# Altium integrated library Analog Devices Data Converters Digital-to-Analog Converters.IntLib: 2231 symbols (part 65 of 181)
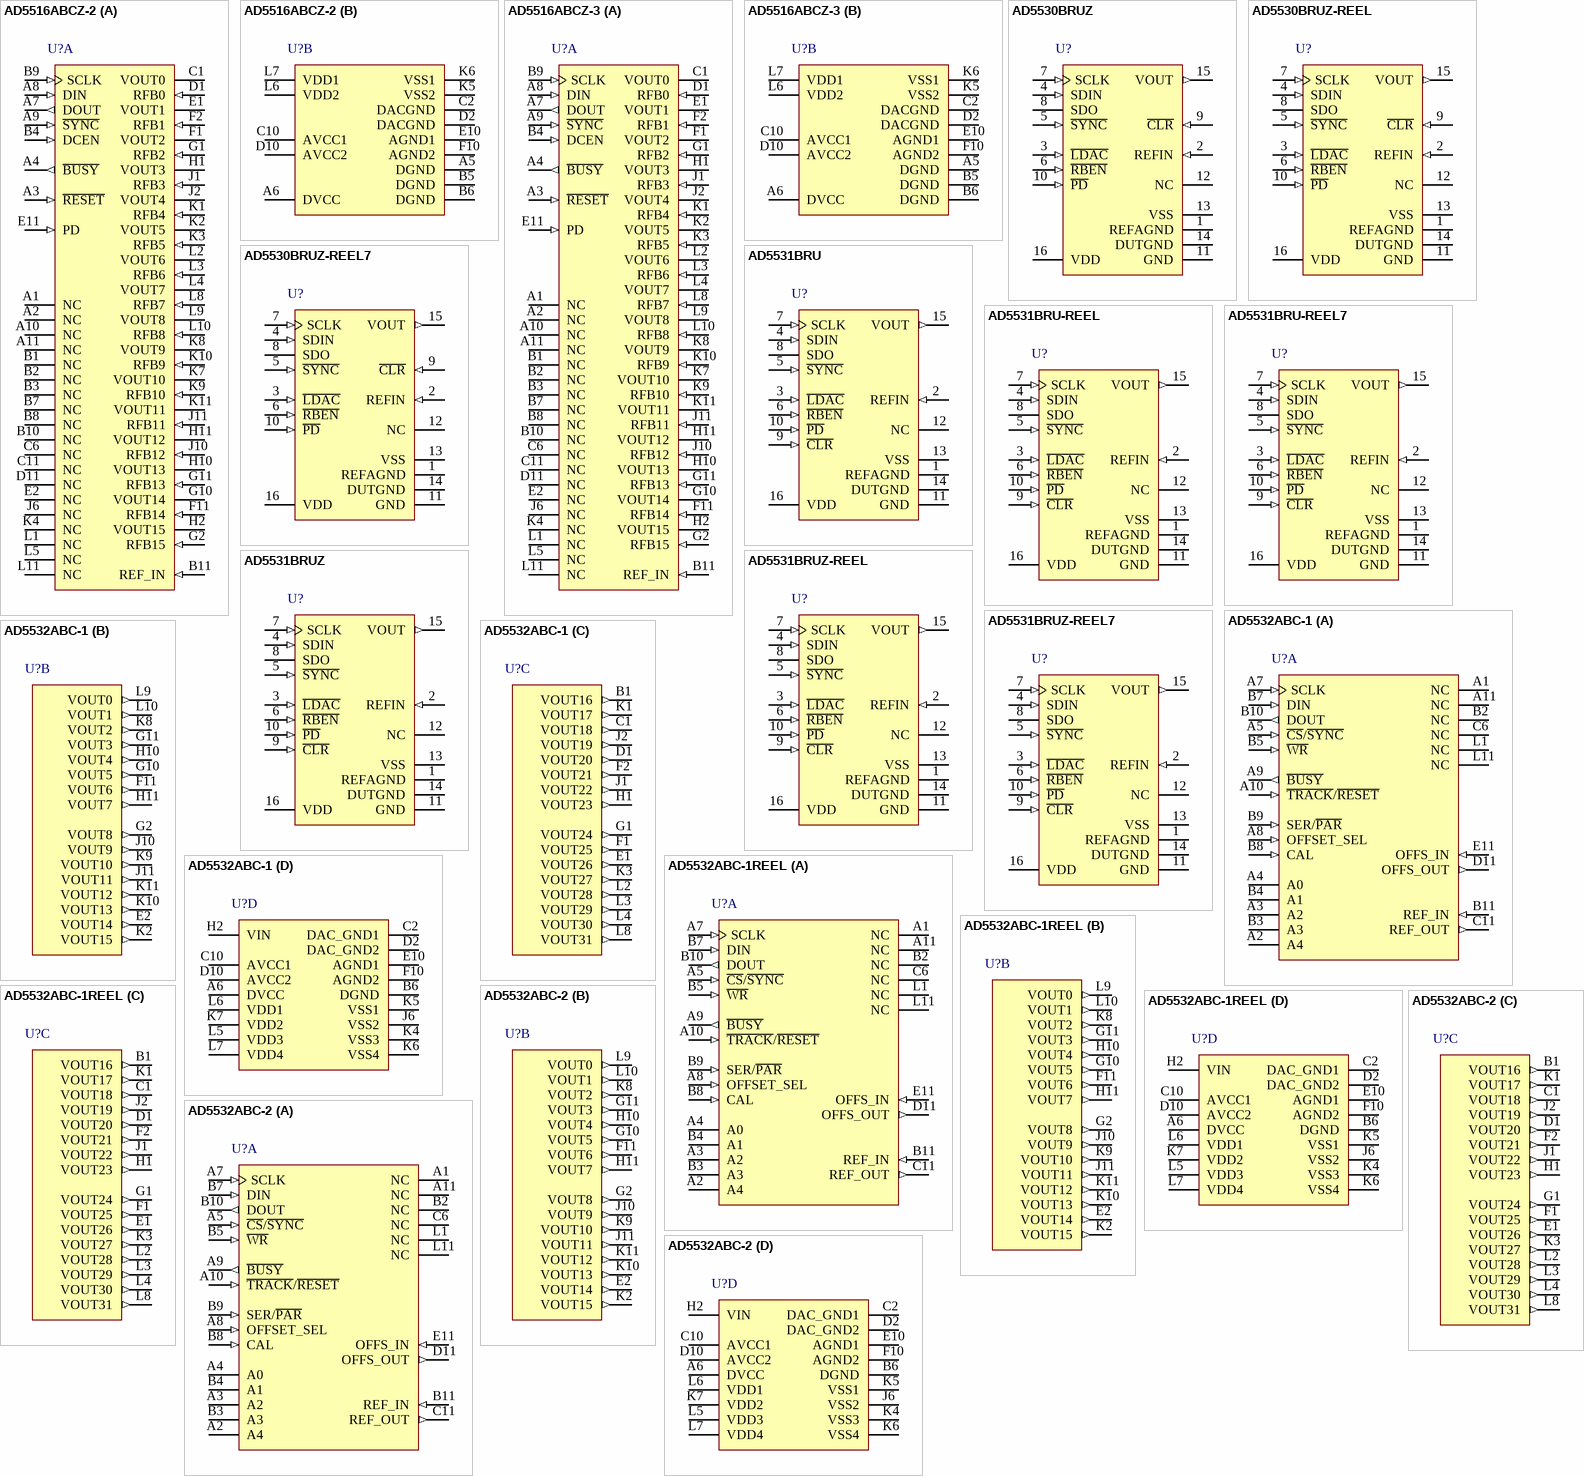
[diagram p178: symbols AD5516ABCZ-2 to AD5532ABC-2]

## AD5516ABCZ-3
designator U?
16 Channel 14-Bit Digital-to-Analog Converter, -40 to +85 degC, BC-74, Pb-Free, Tray; Generic Part Number: AD5516; Manufacturer: Analog Devices; PartNumber: AD5516ABCZ-3; # DAC Outputs: 16; Max V+: 13.2V; Op Pwr Diss: 243mW; Resolution (Bits): 14; Settling Time: 32µs; Single Supply: No; DatasheetVersion: Rev.B; PackageVersion: 061306-A; PackageReference: BC-74; PackageDescription: 74-Ball Chip Scale Package Ball Grid Array [CSP_BGA]; Supplier 1: Digi-Key; Supplier Part Number 1: AD5516ABCZ-3-ND; Supplier 2: Mouser; Supplier Part Number 2: 584-AD5516ABCZ-3; Packing: Tray; RoHS: Y; Mounting Technology: Surface Mount; Code_JEDEC: MO-192-ABD-1; ComponentLink1Description: Manufacturer URL; ComponentLink1URL: http://www.analog.com/en/index.html; ComponentLink2Description: Datasheet; ComponentLink2URL: http://www.analog.com/static/imported-files/data_sheets/AD5516.pdf; ComponentLink3Description: Package Specification; ComponentLink3URL: http://www.analog.com/static/imported-files/packages/466795438540441203902150BC_74.pdf; ComponentLink4Description: Product URL; ComponentLink4URL: http://www.analog.com/en/digital-to-analog-converters/da-converters/ad5516/products/product.html
footprint BC-74 (BGA, 74-Leads, Body 12x12mm, Pitch 1mm)
part A pins: A1 NC "Not Internally Connected", A2 NC "Not Internally Connected", A3 ~{RESET} (in) "Active Low Control Input. This resets all DAC registers to power-on value.", A4 ~{BUSY} (out) "Active Low Output. This signal tells the user that the analog calibration loop is active. It goes low during conversion.The duration of the pulse on B\U\S\Y\ determines the maximum DAC update rate, fUPDATE. Further writes to (See Datasheet)", A7 DOUT (out) "Serial Data Output. DOUT can be used for daisy-chaining a number of devices together or for reading back the data in the shift register for diagnostic purposes. Data is clocked out on DOUT on the rising edge of SCLK and is (See Datasheet)", A8 DIN (in) "Serial Data Input. Data must be valid on the falling edge of SCLK.", A9 ~{SYNC} (in) "Active Low Input. This is the frame synchronization signal for the serial interface. While S\Y\N\C\ is low, data is transferred in on the falling edge of SCLK.", A10 NC "Not Internally Connected", A11 NC "Not Internally Connected", B1 NC "Not Internally Connected", B2 NC "Not Internally Connected", B3 NC "Not Internally Connected", B4 DCEN (in) "Active High Control Input. This pin is tied high to enable Daisy-Chain Mode.", B7 NC "Not Internally Connected", B8 NC "Not Internally Connected", B9 SCLK (in) "Serial Clock Input. Data is clocked into the shift register on the falling edge of SCLK. This operates at clock speeds up to 20 MHz.", B10 NC "Not Internally Connected", B11 REF_IN (in) "Reference Input Voltage for All 16 DACs. The recommended value of REF_IN is 3 V.", C1 VOUT0 (hiz) "Analog Output Voltages from the 16 DAC Channels", C6 NC "Not Internally Connected", C11 NC "Not Internally Connected", D1 RFB0 (in) "Feedback Resistors. For nominal output voltage range, connect each RFB to its corresponding VOUT. Access to the feedback resistors enables the user to increase the DAC current drive or generate programmable current sources. (See Datasheet)", D11 NC "Not Internally Connected", E1 VOUT1 (hiz) "Analog Output Voltages from the 16 DAC Channels", E2 NC "Not Internally Connected", E11 PD (in) "Active High Control Input. All DACs go into power-down mode when this pin is high. The DAC outputs go into a high impedance state.", F1 VOUT2 (hiz) "Analog Output Voltages from the 16 DAC Channels", F2 RFB1 (in) "Feedback Resistors. For nominal output voltage range, connect each RFB to its corresponding VOUT. Access to the feedback resistors enables the user to increase the DAC current drive or generate programmable current sources. (See Datasheet)", F11 RFB14 (in) "Feedback Resistors. For nominal output voltage range, connect each RFB to its corresponding VOUT. Access to the feedback resistors enables the user to increase the DAC current drive or generate programmable current sources. (See Datasheet)", G1 RFB2 (in) "Feedback Resistors. For nominal output voltage range, connect each RFB to its corresponding VOUT. Access to the feedback resistors enables the user to increase the DAC current drive or generate programmable current sources. (See Datasheet)", G2 RFB15 (in) "Feedback Resistors. For nominal output voltage range, connect each RFB to its corresponding VOUT. Access to the feedback resistors enables the user to increase the DAC current drive or generate programmable current sources. (See Datasheet)", G10 VOUT14 (hiz) "Analog Output Voltages from the 16 DAC Channels", G11 RFB13 (in) "Feedback Resistors. For nominal output voltage range, connect each RFB to its corresponding VOUT. Access to the feedback resistors enables the user to increase the DAC current drive or generate programmable current sources. (See Datasheet)", H1 VOUT3 (hiz) "Analog Output Voltages from the 16 DAC Channels", H2 VOUT15 (hiz) "Analog Output Voltages from the 16 DAC Channels", H10 VOUT13 (hiz) "Analog Output Voltages from the 16 DAC Channels", H11 VOUT12 (hiz) "Analog Output Voltages from the 16 DAC Channels", J1 RFB3 (in) "Feedback Resistors. For nominal output voltage range, connect each RFB to its corresponding VOUT. Access to the feedback resistors enables the user to increase the DAC current drive or generate programmable current sources. (See Datasheet)", J2 VOUT4 (hiz) "Analog Output Voltages from the 16 DAC Channels", J6 NC "Not Internally Connected", J10 RFB12 (in) "Feedback Resistors. For nominal output voltage range, connect each RFB to its corresponding VOUT. Access to the feedback resistors enables the user to increase the DAC current drive or generate programmable current sources. (See Datasheet)", J11 RFB11 (in) "Feedback Resistors. For nominal output voltage range, connect each RFB to its corresponding VOUT. Access to the feedback resistors enables the user to increase the DAC current drive or generate programmable current sources. (See Datasheet)", K1 RFB4 (in) "Feedback Resistors. For nominal output voltage range, connect each RFB to its corresponding VOUT. Access to the feedback resistors enables the user to increase the DAC current drive or generate programmable current sources. (See Datasheet)", K2 VOUT5 (hiz) "Analog Output Voltages from the 16 DAC Channels", K3 RFB5 (in) "Feedback Resistors. For nominal output voltage range, connect each RFB to its corresponding VOUT. Access to the feedback resistors enables the user to increase the DAC current drive or generate programmable current sources. (See Datasheet)", K4 NC "Not Internally Connected", K7 VOUT10 (hiz) "Analog Output Voltages from the 16 DAC Channels", K8 VOUT9 (hiz) "Analog Output Voltages from the 16 DAC Channels", K9 RFB10 (in) "Feedback Resistors. For nominal output voltage range, connect each RFB to its corresponding VOUT. Access to the feedback resistors enables the user to increase the DAC current drive or generate programmable current sources. (See Datasheet)", K10 RFB9 (in) "Feedback Resistors. For nominal output voltage range, connect each RFB to its corresponding VOUT. Access to the feedback resistors enables the user to increase the DAC current drive or generate programmable current sources. (See Datasheet)", K11 VOUT11 (hiz) "Analog Output Voltages from the 16 DAC Channels", L1 NC "Not Internally Connected", L2 VOUT6 (hiz) "Analog Output Voltages from the 16 DAC Channels", L3 RFB6 (in) "Feedback Resistors. For nominal output voltage range, connect each RFB to its corresponding VOUT. Access to the feedback resistors enables the user to increase the DAC current drive or generate programmable current sources. (See Datasheet)", L4 VOUT7 (hiz) "Analog Output Voltages from the 16 DAC Channels", L5 NC "Not Internally Connected", L8 RFB7 (in) "Feedback Resistors. For nominal output voltage range, connect each RFB to its corresponding VOUT. Access to the feedback resistors enables the user to increase the DAC current drive or generate programmable current sources. (See Datasheet)", L9 VOUT8 (hiz) "Analog Output Voltages from the 16 DAC Channels", L10 RFB8 (in) "Feedback Resistors. For nominal output voltage range, connect each RFB to its corresponding VOUT. Access to the feedback resistors enables the user to increase the DAC current drive or generate programmable current sources. (See Datasheet)", L11 NC "Not Internally Connected"
part B pins: A5 DGND (power) "Digital GND Pins", A6 DVCC (power) "Digital Supply Pin. Voltage range from 2.7 V to 5.25 V.", B5 DGND (power) "Digital GND Pins", B6 DGND (power) "Digital GND Pins", C2 DACGND (power) "Reference GND Supply for All 16 DACs", C10 AVCC1 (power) "Analog Supply Pins. Voltage range from 4.75 V to 5.25 V.", D2 DACGND (power) "Reference GND Supply for All 16 DACs", D10 AVCC2 (power) "Analog Supply Pins. Voltage range from 4.75 V to 5.25 V.", E10 AGND1 (power) "Analog GND Pins", F10 AGND2 (power) "Analog GND Pins", K5 VSS2 (power) "VSS Supply Pins. Voltage range from -4.75 V to -15.75 V.", K6 VSS1 (power) "VSS Supply Pins. Voltage range from -4.75 V to -15.75 V.", L6 VDD2 (power) "VDD Supply Pins. Voltage range from 4.75 V to 15.75 V.", L7 VDD1 (power) "VDD Supply Pins. Voltage range from 4.75 V to 15.75 V."

## AD5530BRUZ
designator U?
Single 12-Bit Voltage Output Digital-to-Analog Converter with Serial Interface, -40 to +85 degC, RU-16, Pb-Free, Tube; Generic Part Number: AD5530; Manufacturer: Analog Devices; PartNumber: AD5530BRUZ; # DAC Outputs: 1; Max V+: 16.5V; Op Pwr Diss: 60mW; Resolution (Bits): 12; Settling Time: 20µs; Single Supply: No; DatasheetVersion: Rev.B; PackageVersion: Nov-2002; PackageReference: RU-16; PackageDescription: 16-Lead Thin Shrink Small Outline Package [TSSOP]; Supplier 1: Digi-Key; Supplier Part Number 1: AD5530BRUZ-ND; Supplier 2: Farnell; Supplier Part Number 2: 1079394; Supplier 3: Newark; Supplier Part Number 3: 59K4197; Supplier 4: Mouser; Supplier Part Number 4: 584-AD5530BRUZ; Packing: Tube; RoHS: Y; Mounting Technology: Surface Mount; Code_JEDEC: MO-153-AB; ComponentLink1Description: Manufacturer URL; ComponentLink1URL: http://www.analog.com/en/index.html; ComponentLink2Description: Datasheet; ComponentLink2URL: http://www.analog.com/static/imported-files/data_sheets/AD5530_5531.pdf; ComponentLink3Description: Package Specification; ComponentLink3URL: http://www.analog.com/static/imported-files/packages/36244347913743854010197452789RU16.pdf; ComponentLink4Description: Product URL; ComponentLink4URL: http://www.analog.com/en/digital-to-analog-converters/da-converters/ad5530/products/product.html
footprint RU-16_N (TSOP, 16-Leads, Body 5x4.4mm, Pitch 0.65mm, IPC Medium Density)
footprint RU-16_L (TSOP, 16-Leads, Body 5x4.4mm, Pitch 0.65mm, IPC High Density)
footprint RU-16_M (TSOP, 16-Leads, Body 5x4.4mm, Pitch 0.65mm, IPC Low Density)
pins: 1 REFAGND (power) "For bipolar +/-10 V output range, this pin should be tied to 0 V.", 2 REFIN (in) "This is the voltage reference input for the DAC. Connect to external 5 V reference for specified bipolar +/-10 V output.", 3 ~{LDAC} (in) "Load DAC Logic Input (Active Low). When taken low, the contents of the shift register are transferred to the DAC register. L\D\A\C\ can be tied permanently low, enabling the outputs to be updated on the rising edge of (See Datasheet)", 4 SDIN (in) "Serial Data Input. This device accepts 16-bit words. Data is clocked into the input register on the falling edge of SCLK.", 5 ~{SYNC} (in) "Active Low Control Input. Data is clocked into the shift register on the falling edges of SCLK.", 6 ~{RBEN} (in) "Active Low Readback Enable Function. This function allows the contents of the DAC register to be read. Data from the DAC register is shifted out on the SDO pin on each rising edge of SCLK.", 7 SCLK (in) "Clock Input. Data is clocked into the input register on the falling edge of SCLK.", 8 SDO (hiz) "Serial Data Out. This pin is used to clock out the serial data previously written to the input shift register or can be used in conjunction with R\B\E\N\ to read back the data from the DAC register. This is an open drain (See Datasheet)", 9 ~{CLR} (in) "Level Sensitive, Active Low Input. A falling edge of C\L\R\ resets VOUT to DUTGND. The contents of the registers are untouched.", 10 ~{PD} (in) "This allows the DAC to be put into a power-down state.", 11 GND (power) "Ground Reference.", 12 NC "Do not connect anything to this pin.", 13 VSS (power) "Negative Analog Supply Voltage. -12 V +/- 10% or -15 V +/- 10%, for specified performance.", 14 DUTGND (power) "VOUT is referenced to the voltage applied to this pin.", 15 VOUT (out) "DAC Output.", 16 VDD (power) "Positive Analog Supply Voltage. 12 V +/- 10% or 15 V +/- 10%, for specified performance."

## AD5530BRUZ-REEL
designator U?
Single 12-Bit Voltage Output Digital-to-Analog Converter with Serial Interface, -40 to +85 degC, RU-16, Pb-Free, Reel; Generic Part Number: AD5530; Manufacturer: Analog Devices; PartNumber: AD5530BRUZ-REEL; # DAC Outputs: 1; Max V+: 16.5V; Op Pwr Diss: 60mW; Resolution (Bits): 12; Settling Time: 20µs; Single Supply: No; DatasheetVersion: Rev.B; PackageVersion: Nov-2002; PackageReference: RU-16; PackageDescription: 16-Lead Thin Shrink Small Outline Package [TSSOP]; Supplier 1: Digi-Key; Supplier Part Number 1: AD5530BRUZ-REEL-ND; Supplier 2: Mouser; Supplier Part Number 2: 584-AD5530BRUZ-R; Packing: Reel; RoHS: Y; Mounting Technology: Surface Mount; Code_JEDEC: MO-153-AB; ComponentLink1Description: Manufacturer URL; ComponentLink1URL: http://www.analog.com/en/index.html; ComponentLink2Description: Datasheet; ComponentLink2URL: http://www.analog.com/static/imported-files/data_sheets/AD5530_5531.pdf; ComponentLink3Description: Package Specification; ComponentLink3URL: http://www.analog.com/static/imported-files/packages/36244347913743854010197452789RU16.pdf; ComponentLink4Description: Product URL; ComponentLink4URL: http://www.analog.com/en/digital-to-analog-converters/da-converters/ad5530/products/product.html
footprint RU-16_N (TSOP, 16-Leads, Body 5x4.4mm, Pitch 0.65mm, IPC Medium Density)
footprint RU-16_L (TSOP, 16-Leads, Body 5x4.4mm, Pitch 0.65mm, IPC High Density)
footprint RU-16_M (TSOP, 16-Leads, Body 5x4.4mm, Pitch 0.65mm, IPC Low Density)
pins: 1 REFAGND (power) "For bipolar +/-10 V output range, this pin should be tied to 0 V.", 2 REFIN (in) "This is the voltage reference input for the DAC. Connect to external 5 V reference for specified bipolar +/-10 V output.", 3 ~{LDAC} (in) "Load DAC Logic Input (Active Low). When taken low, the contents of the shift register are transferred to the DAC register. L\D\A\C\ can be tied permanently low, enabling the outputs to be updated on the rising edge of (See Datasheet)", 4 SDIN (in) "Serial Data Input. This device accepts 16-bit words. Data is clocked into the input register on the falling edge of SCLK.", 5 ~{SYNC} (in) "Active Low Control Input. Data is clocked into the shift register on the falling edges of SCLK.", 6 ~{RBEN} (in) "Active Low Readback Enable Function. This function allows the contents of the DAC register to be read. Data from the DAC register is shifted out on the SDO pin on each rising edge of SCLK.", 7 SCLK (in) "Clock Input. Data is clocked into the input register on the falling edge of SCLK.", 8 SDO (hiz) "Serial Data Out. This pin is used to clock out the serial data previously written to the input shift register or can be used in conjunction with R\B\E\N\ to read back the data from the DAC register. This is an open drain (See Datasheet)", 9 ~{CLR} (in) "Level Sensitive, Active Low Input. A falling edge of C\L\R\ resets VOUT to DUTGND. The contents of the registers are untouched.", 10 ~{PD} (in) "This allows the DAC to be put into a power-down state.", 11 GND (power) "Ground Reference.", 12 NC "Do not connect anything to this pin.", 13 VSS (power) "Negative Analog Supply Voltage. -12 V +/- 10% or -15 V +/- 10%, for specified performance.", 14 DUTGND (power) "VOUT is referenced to the voltage applied to this pin.", 15 VOUT (out) "DAC Output.", 16 VDD (power) "Positive Analog Supply Voltage. 12 V +/- 10% or 15 V +/- 10%, for specified performance."

## AD5530BRUZ-REEL7
designator U?
Single 12-Bit Voltage Output Digital-to-Analog Converter with Serial Interface, -40 to +85 degC, RU-16, Pb-Free, Reel; Generic Part Number: AD5530; Manufacturer: Analog Devices; PartNumber: AD5530BRUZ-REEL7; # DAC Outputs: 1; Max V+: 16.5V; Op Pwr Diss: 60mW; Resolution (Bits): 12; Settling Time: 20µs; Single Supply: No; DatasheetVersion: Rev.B; PackageVersion: Nov-2002; PackageReference: RU-16; PackageDescription: 16-Lead Thin Shrink Small Outline Package [TSSOP]; Supplier 1: Digi-Key; Supplier Part Number 1: AD5530BRUZ-REEL7-ND; Supplier 2: Mouser; Supplier Part Number 2: 584-AD5530BRUZ-R7; Packing: Reel; RoHS: Y; Mounting Technology: Surface Mount; Code_JEDEC: MO-153-AB; ComponentLink1Description: Manufacturer URL; ComponentLink1URL: http://www.analog.com/en/index.html; ComponentLink2Description: Datasheet; ComponentLink2URL: http://www.analog.com/static/imported-files/data_sheets/AD5530_5531.pdf; ComponentLink3Description: Package Specification; ComponentLink3URL: http://www.analog.com/static/imported-files/packages/36244347913743854010197452789RU16.pdf; ComponentLink4Description: Product URL; ComponentLink4URL: http://www.analog.com/en/digital-to-analog-converters/da-converters/ad5530/products/product.html
footprint RU-16_N (TSOP, 16-Leads, Body 5x4.4mm, Pitch 0.65mm, IPC Medium Density)
footprint RU-16_L (TSOP, 16-Leads, Body 5x4.4mm, Pitch 0.65mm, IPC High Density)
footprint RU-16_M (TSOP, 16-Leads, Body 5x4.4mm, Pitch 0.65mm, IPC Low Density)
pins: 1 REFAGND (power) "For bipolar +/-10 V output range, this pin should be tied to 0 V.", 2 REFIN (in) "This is the voltage reference input for the DAC. Connect to external 5 V reference for specified bipolar +/-10 V output.", 3 ~{LDAC} (in) "Load DAC Logic Input (Active Low). When taken low, the contents of the shift register are transferred to the DAC register. L\D\A\C\ can be tied permanently low, enabling the outputs to be updated on the rising edge of (See Datasheet)", 4 SDIN (in) "Serial Data Input. This device accepts 16-bit words. Data is clocked into the input register on the falling edge of SCLK.", 5 ~{SYNC} (in) "Active Low Control Input. Data is clocked into the shift register on the falling edges of SCLK.", 6 ~{RBEN} (in) "Active Low Readback Enable Function. This function allows the contents of the DAC register to be read. Data from the DAC register is shifted out on the SDO pin on each rising edge of SCLK.", 7 SCLK (in) "Clock Input. Data is clocked into the input register on the falling edge of SCLK.", 8 SDO (hiz) "Serial Data Out. This pin is used to clock out the serial data previously written to the input shift register or can be used in conjunction with R\B\E\N\ to read back the data from the DAC register. This is an open drain (See Datasheet)", 9 ~{CLR} (in) "Level Sensitive, Active Low Input. A falling edge of C\L\R\ resets VOUT to DUTGND. The contents of the registers are untouched.", 10 ~{PD} (in) "This allows the DAC to be put into a power-down state.", 11 GND (power) "Ground Reference.", 12 NC "Do not connect anything to this pin.", 13 VSS (power) "Negative Analog Supply Voltage. -12 V +/- 10% or -15 V +/- 10%, for specified performance.", 14 DUTGND (power) "VOUT is referenced to the voltage applied to this pin.", 15 VOUT (out) "DAC Output.", 16 VDD (power) "Positive Analog Supply Voltage. 12 V +/- 10% or 15 V +/- 10%, for specified performance."

## AD5531BRU
designator U?
Single 14-Bit Voltage Output Digital-to-Analog Converter with Serial Interface, -40 to +85 degC, RU-16, Tube; Generic Part Number: AD5531; Manufacturer: Analog Devices; PartNumber: AD5531BRU; # DAC Outputs: 1; Max V+: 16.5V; Op Pwr Diss: 60mW; Resolution (Bits): 14; Settling Time: 20µs; Single Supply: No; DatasheetVersion: Rev.B; PackageVersion: Nov-2002; PackageReference: RU-16; PackageDescription: 16-Lead Thin Shrink Small Outline Package [TSSOP]; Supplier 1: Digi-Key; Supplier Part Number 1: AD5531BRU-ND; Supplier 2: Mouser; Supplier Part Number 2: 584-AD5531BRU; Packing: Tube; RoHS: N; Mounting Technology: Surface Mount; Code_JEDEC: MO-153-AB; ComponentLink1Description: Manufacturer URL; ComponentLink1URL: http://www.analog.com/en/index.html; ComponentLink2Description: Datasheet; ComponentLink2URL: http://www.analog.com/static/imported-files/data_sheets/AD5530_5531.pdf; ComponentLink3Description: Package Specification; ComponentLink3URL: http://www.analog.com/static/imported-files/packages/36244347913743854010197452789RU16.pdf; ComponentLink4Description: Product URL; ComponentLink4URL: http://www.analog.com/en/digital-to-analog-converters/da-converters/ad5531/products/product.html
footprint RU-16_N (TSOP, 16-Leads, Body 5x4.4mm, Pitch 0.65mm, IPC Medium Density)
footprint RU-16_L (TSOP, 16-Leads, Body 5x4.4mm, Pitch 0.65mm, IPC High Density)
footprint RU-16_M (TSOP, 16-Leads, Body 5x4.4mm, Pitch 0.65mm, IPC Low Density)
pins: 1 REFAGND (power) "For bipolar +/-10 V output range, this pin should be tied to 0 V.", 2 REFIN (in) "This is the voltage reference input for the DAC. Connect to external 5 V reference for specified bipolar +/-10 V output.", 3 ~{LDAC} (in) "Load DAC Logic Input (Active Low). When taken low, the contents of the shift register are transferred to the DAC register. L\D\A\C\ can be tied permanently low, enabling the outputs to be updated on the rising edge of (See Datasheet)", 4 SDIN (in) "Serial Data Input. This device accepts 16-bit words. Data is clocked into the input register on the falling edge of SCLK.", 5 ~{SYNC} (in) "Active Low Control Input. Data is clocked into the shift register on the falling edges of SCLK.", 6 ~{RBEN} (in) "Active Low Readback Enable Function. This function allows the contents of the DAC register to be read. Data from the DAC register is shifted out on the SDO pin on each rising edge of SCLK.", 7 SCLK (in) "Clock Input. Data is clocked into the input register on the falling edge of SCLK.", 8 SDO (hiz) "Serial Data Out. This pin is used to clock out the serial data previously written to the input shift register or can be used in conjunction with R\B\E\N\ to read back the data from the DAC register. This is an open drain (See Datasheet)", 9 ~{CLR} (in) "Level Sensitive, Active Low Input. A falling edge of C\L\R\ resets VOUT to DUTGND. The contents of the registers are untouched.", 10 ~{PD} (in) "This allows the DAC to be put into a power-down state.", 11 GND (power) "Ground Reference.", 12 NC "Do not connect anything to this pin.", 13 VSS (power) "Negative Analog Supply Voltage. -12 V +/-10% or -15 V +/-10%, for specified performance.", 14 DUTGND (power) "VOUT is referenced to the voltage applied to this pin.", 15 VOUT (out) "DAC Output.", 16 VDD (power) "Positive Analog Supply Voltage. 12 V +/-10% or 15 V +/-10%, for specified performance."

## AD5531BRU-REEL
designator U?
Single 14-Bit Voltage Output Digital-to-Analog Converter with Serial Interface, -40 to +85 degC, RU-16, Reel; Generic Part Number: AD5531; Manufacturer: Analog Devices; PartNumber: AD5531BRU-REEL; # DAC Outputs: 1; Max V+: 16.5V; Op Pwr Diss: 60mW; Resolution (Bits): 14; Settling Time: 20µs; Single Supply: No; DatasheetVersion: Rev.B; PackageVersion: Nov-2002; PackageReference: RU-16; PackageDescription: 16-Lead Thin Shrink Small Outline Package [TSSOP]; Supplier 1: Mouser; Supplier Part Number 1: N/A; Packing: Reel; RoHS: N; Mounting Technology: Surface Mount; Code_JEDEC: MO-153-AB; ComponentLink1Description: Manufacturer URL; ComponentLink1URL: http://www.analog.com/en/index.html; ComponentLink2Description: Datasheet; ComponentLink2URL: http://www.analog.com/static/imported-files/data_sheets/AD5530_5531.pdf; ComponentLink3Description: Package Specification; ComponentLink3URL: http://www.analog.com/static/imported-files/packages/36244347913743854010197452789RU16.pdf; ComponentLink4Description: Product URL; ComponentLink4URL: http://www.analog.com/en/digital-to-analog-converters/da-converters/ad5531/products/product.html
footprint RU-16_N (TSOP, 16-Leads, Body 5x4.4mm, Pitch 0.65mm, IPC Medium Density)
footprint RU-16_L (TSOP, 16-Leads, Body 5x4.4mm, Pitch 0.65mm, IPC High Density)
footprint RU-16_M (TSOP, 16-Leads, Body 5x4.4mm, Pitch 0.65mm, IPC Low Density)
pins: 1 REFAGND (power) "For bipolar +/-10 V output range, this pin should be tied to 0 V.", 2 REFIN (in) "This is the voltage reference input for the DAC. Connect to external 5 V reference for specified bipolar +/-10 V output.", 3 ~{LDAC} (in) "Load DAC Logic Input (Active Low). When taken low, the contents of the shift register are transferred to the DAC register. L\D\A\C\ can be tied permanently low, enabling the outputs to be updated on the rising edge of (See Datasheet)", 4 SDIN (in) "Serial Data Input. This device accepts 16-bit words. Data is clocked into the input register on the falling edge of SCLK.", 5 ~{SYNC} (in) "Active Low Control Input. Data is clocked into the shift register on the falling edges of SCLK.", 6 ~{RBEN} (in) "Active Low Readback Enable Function. This function allows the contents of the DAC register to be read. Data from the DAC register is shifted out on the SDO pin on each rising edge of SCLK.", 7 SCLK (in) "Clock Input. Data is clocked into the input register on the falling edge of SCLK.", 8 SDO (hiz) "Serial Data Out. This pin is used to clock out the serial data previously written to the input shift register or can be used in conjunction with R\B\E\N\ to read back the data from the DAC register. This is an open drain (See Datasheet)", 9 ~{CLR} (in) "Level Sensitive, Active Low Input. A falling edge of C\L\R\ resets VOUT to DUTGND. The contents of the registers are untouched.", 10 ~{PD} (in) "This allows the DAC to be put into a power-down state.", 11 GND (power) "Ground Reference.", 12 NC "Do not connect anything to this pin.", 13 VSS (power) "Negative Analog Supply Voltage. -12 V +/-10% or -15 V +/-10%, for specified performance.", 14 DUTGND (power) "VOUT is referenced to the voltage applied to this pin.", 15 VOUT (out) "DAC Output.", 16 VDD (power) "Positive Analog Supply Voltage. 12 V +/-10% or 15 V +/-10%, for specified performance."

## AD5531BRU-REEL7
designator U?
Single 14-Bit Voltage Output Digital-to-Analog Converter with Serial Interface, -40 to +85 degC, RU-16, Reel; Generic Part Number: AD5531; Manufacturer: Analog Devices; PartNumber: AD5531BRU-REEL7; # DAC Outputs: 1; Max V+: 16.5V; Op Pwr Diss: 60mW; Resolution (Bits): 14; Settling Time: 20µs; Single Supply: No; DatasheetVersion: Rev.B; PackageVersion: Nov-2002; PackageReference: RU-16; PackageDescription: 16-Lead Thin Shrink Small Outline Package [TSSOP]; Supplier 1: Digi-Key; Supplier Part Number 1: AD5531BRU-REEL7-ND; Supplier 2: Mouser; Supplier Part Number 2: 584-AD5531BRU-R7; Packing: Reel; RoHS: N; Mounting Technology: Surface Mount; Code_JEDEC: MO-153-AB; ComponentLink1Description: Manufacturer URL; ComponentLink1URL: http://www.analog.com/en/index.html; ComponentLink2Description: Datasheet; ComponentLink2URL: http://www.analog.com/static/imported-files/data_sheets/AD5530_5531.pdf; ComponentLink3Description: Package Specification; ComponentLink3URL: http://www.analog.com/static/imported-files/packages/36244347913743854010197452789RU16.pdf; ComponentLink4Description: Product URL; ComponentLink4URL: http://www.analog.com/en/digital-to-analog-converters/da-converters/ad5531/products/product.html
footprint RU-16_N (TSOP, 16-Leads, Body 5x4.4mm, Pitch 0.65mm, IPC Medium Density)
footprint RU-16_L (TSOP, 16-Leads, Body 5x4.4mm, Pitch 0.65mm, IPC High Density)
footprint RU-16_M (TSOP, 16-Leads, Body 5x4.4mm, Pitch 0.65mm, IPC Low Density)
pins: 1 REFAGND (power) "For bipolar +/-10 V output range, this pin should be tied to 0 V.", 2 REFIN (in) "This is the voltage reference input for the DAC. Connect to external 5 V reference for specified bipolar +/-10 V output.", 3 ~{LDAC} (in) "Load DAC Logic Input (Active Low). When taken low, the contents of the shift register are transferred to the DAC register. L\D\A\C\ can be tied permanently low, enabling the outputs to be updated on the rising edge of (See Datasheet)", 4 SDIN (in) "Serial Data Input. This device accepts 16-bit words. Data is clocked into the input register on the falling edge of SCLK.", 5 ~{SYNC} (in) "Active Low Control Input. Data is clocked into the shift register on the falling edges of SCLK.", 6 ~{RBEN} (in) "Active Low Readback Enable Function. This function allows the contents of the DAC register to be read. Data from the DAC register is shifted out on the SDO pin on each rising edge of SCLK.", 7 SCLK (in) "Clock Input. Data is clocked into the input register on the falling edge of SCLK.", 8 SDO (hiz) "Serial Data Out. This pin is used to clock out the serial data previously written to the input shift register or can be used in conjunction with R\B\E\N\ to read back the data from the DAC register. This is an open drain (See Datasheet)", 9 ~{CLR} (in) "Level Sensitive, Active Low Input. A falling edge of C\L\R\ resets VOUT to DUTGND. The contents of the registers are untouched.", 10 ~{PD} (in) "This allows the DAC to be put into a power-down state.", 11 GND (power) "Ground Reference.", 12 NC "Do not connect anything to this pin.", 13 VSS (power) "Negative Analog Supply Voltage. -12 V +/-10% or -15 V +/-10%, for specified performance.", 14 DUTGND (power) "VOUT is referenced to the voltage applied to this pin.", 15 VOUT (out) "DAC Output.", 16 VDD (power) "Positive Analog Supply Voltage. 12 V +/-10% or 15 V +/-10%, for specified performance."

## AD5531BRUZ
designator U?
Single 14-Bit Voltage Output Digital-to-Analog Converter with Serial Interface, -40 to +85 degC, RU-16, Pb-Free, Tube; Generic Part Number: AD5531; Manufacturer: Analog Devices; PartNumber: AD5531BRUZ; # DAC Outputs: 1; Max V+: 16.5V; Op Pwr Diss: 60mW; Resolution (Bits): 14; Settling Time: 20µs; Single Supply: No; DatasheetVersion: Rev.B; PackageVersion: Nov-2002; PackageReference: RU-16; PackageDescription: 16-Lead Thin Shrink Small Outline Package [TSSOP]; Supplier 1: Digi-Key; Supplier Part Number 1: AD5531BRUZ-ND; Supplier 2: Farnell; Supplier Part Number 2: 1438908; Supplier 3: Newark; Supplier Part Number 3: 59K4200; Supplier 4: Mouser; Supplier Part Number 4: 584-AD5531BRUZ; Packing: Tube; RoHS: Y; Mounting Technology: Surface Mount; Code_JEDEC: MO-153-AB; ComponentLink1Description: Manufacturer URL; ComponentLink1URL: http://www.analog.com/en/index.html; ComponentLink2Description: Datasheet; ComponentLink2URL: http://www.analog.com/static/imported-files/data_sheets/AD5530_5531.pdf; ComponentLink3Description: Package Specification; ComponentLink3URL: http://www.analog.com/static/imported-files/packages/36244347913743854010197452789RU16.pdf; ComponentLink4Description: Product URL; ComponentLink4URL: http://www.analog.com/en/digital-to-analog-converters/da-converters/ad5531/products/product.html
footprint RU-16_N (TSOP, 16-Leads, Body 5x4.4mm, Pitch 0.65mm, IPC Medium Density)
footprint RU-16_L (TSOP, 16-Leads, Body 5x4.4mm, Pitch 0.65mm, IPC High Density)
footprint RU-16_M (TSOP, 16-Leads, Body 5x4.4mm, Pitch 0.65mm, IPC Low Density)
pins: 1 REFAGND (power) "For bipolar +/-10 V output range, this pin should be tied to 0 V.", 2 REFIN (in) "This is the voltage reference input for the DAC. Connect to external 5 V reference for specified bipolar +/-10 V output.", 3 ~{LDAC} (in) "Load DAC Logic Input (Active Low). When taken low, the contents of the shift register are transferred to the DAC register. L\D\A\C\ can be tied permanently low, enabling the outputs to be updated on the rising edge of (See Datasheet)", 4 SDIN (in) "Serial Data Input. This device accepts 16-bit words. Data is clocked into the input register on the falling edge of SCLK.", 5 ~{SYNC} (in) "Active Low Control Input. Data is clocked into the shift register on the falling edges of SCLK.", 6 ~{RBEN} (in) "Active Low Readback Enable Function. This function allows the contents of the DAC register to be read. Data from the DAC register is shifted out on the SDO pin on each rising edge of SCLK.", 7 SCLK (in) "Clock Input. Data is clocked into the input register on the falling edge of SCLK.", 8 SDO (hiz) "Serial Data Out. This pin is used to clock out the serial data previously written to the input shift register or can be used in conjunction with R\B\E\N\ to read back the data from the DAC register. This is an open drain (See Datasheet)", 9 ~{CLR} (in) "Level Sensitive, Active Low Input. A falling edge of C\L\R\ resets VOUT to DUTGND. The contents of the registers are untouched.", 10 ~{PD} (in) "This allows the DAC to be put into a power-down state.", 11 GND (power) "Ground Reference.", 12 NC "Do not connect anything to this pin.", 13 VSS (power) "Negative Analog Supply Voltage. -12 V +/-10% or -15 V +/-10%, for specified performance.", 14 DUTGND (power) "VOUT is referenced to the voltage applied to this pin.", 15 VOUT (out) "DAC Output.", 16 VDD (power) "Positive Analog Supply Voltage. 12 V +/-10% or 15 V +/-10%, for specified performance."

## AD5531BRUZ-REEL
designator U?
Single 14-Bit Voltage Output Digital-to-Analog Converter with Serial Interface, -40 to +85 degC, RU-16, Pb-Free, Reel; Generic Part Number: AD5531; Manufacturer: Analog Devices; PartNumber: AD5531BRUZ-REEL; # DAC Outputs: 1; Max V+: 16.5V; Op Pwr Diss: 60mW; Resolution (Bits): 14; Settling Time: 20µs; Single Supply: No; DatasheetVersion: Rev.B; PackageVersion: Nov-2002; PackageReference: RU-16; PackageDescription: 16-Lead Thin Shrink Small Outline Package [TSSOP]; Supplier 1: Digi-Key; Supplier Part Number 1: AD5531BRUZ-REEL-ND; Supplier 2: Mouser; Supplier Part Number 2: 584-AD5531BRUZ-R; Packing: Reel; RoHS: Y; Mounting Technology: Surface Mount; Code_JEDEC: MO-153-AB; ComponentLink1Description: Manufacturer URL; ComponentLink1URL: http://www.analog.com/en/index.html; ComponentLink2Description: Datasheet; ComponentLink2URL: http://www.analog.com/static/imported-files/data_sheets/AD5530_5531.pdf; ComponentLink3Description: Package Specification; ComponentLink3URL: http://www.analog.com/static/imported-files/packages/36244347913743854010197452789RU16.pdf; ComponentLink4Description: Product URL; ComponentLink4URL: http://www.analog.com/en/digital-to-analog-converters/da-converters/ad5531/products/product.html
footprint RU-16_N (TSOP, 16-Leads, Body 5x4.4mm, Pitch 0.65mm, IPC Medium Density)
footprint RU-16_L (TSOP, 16-Leads, Body 5x4.4mm, Pitch 0.65mm, IPC High Density)
footprint RU-16_M (TSOP, 16-Leads, Body 5x4.4mm, Pitch 0.65mm, IPC Low Density)
pins: 1 REFAGND (power) "For bipolar +/-10 V output range, this pin should be tied to 0 V.", 2 REFIN (in) "This is the voltage reference input for the DAC. Connect to external 5 V reference for specified bipolar +/-10 V output.", 3 ~{LDAC} (in) "Load DAC Logic Input (Active Low). When taken low, the contents of the shift register are transferred to the DAC register. L\D\A\C\ can be tied permanently low, enabling the outputs to be updated on the rising edge of (See Datasheet)", 4 SDIN (in) "Serial Data Input. This device accepts 16-bit words. Data is clocked into the input register on the falling edge of SCLK.", 5 ~{SYNC} (in) "Active Low Control Input. Data is clocked into the shift register on the falling edges of SCLK.", 6 ~{RBEN} (in) "Active Low Readback Enable Function. This function allows the contents of the DAC register to be read. Data from the DAC register is shifted out on the SDO pin on each rising edge of SCLK.", 7 SCLK (in) "Clock Input. Data is clocked into the input register on the falling edge of SCLK.", 8 SDO (hiz) "Serial Data Out. This pin is used to clock out the serial data previously written to the input shift register or can be used in conjunction with R\B\E\N\ to read back the data from the DAC register. This is an open drain (See Datasheet)", 9 ~{CLR} (in) "Level Sensitive, Active Low Input. A falling edge of C\L\R\ resets VOUT to DUTGND. The contents of the registers are untouched.", 10 ~{PD} (in) "This allows the DAC to be put into a power-down state.", 11 GND (power) "Ground Reference.", 12 NC "Do not connect anything to this pin.", 13 VSS (power) "Negative Analog Supply Voltage. -12 V +/-10% or -15 V +/-10%, for specified performance.", 14 DUTGND (power) "VOUT is referenced to the voltage applied to this pin.", 15 VOUT (out) "DAC Output.", 16 VDD (power) "Positive Analog Supply Voltage. 12 V +/-10% or 15 V +/-10%, for specified performance."

## AD5531BRUZ-REEL7
designator U?
Single 14-Bit Voltage Output Digital-to-Analog Converter with Serial Interface, -40 to +85 degC, RU-16, Pb-Free, Reel; Generic Part Number: AD5531; Manufacturer: Analog Devices; PartNumber: AD5531BRUZ-REEL7; # DAC Outputs: 1; Max V+: 16.5V; Op Pwr Diss: 60mW; Resolution (Bits): 14; Settling Time: 20µs; Single Supply: No; DatasheetVersion: Rev.B; PackageVersion: Nov-2002; PackageReference: RU-16; PackageDescription: 16-Lead Thin Shrink Small Outline Package [TSSOP]; Supplier 1: Digi-Key; Supplier Part Number 1: AD5531BRUZ-REEL7-ND; Supplier 2: Mouser; Supplier Part Number 2: 584-AD5531BRUZ-R7; Packing: Reel; RoHS: Y; Mounting Technology: Surface Mount; Code_JEDEC: MO-153-AB; ComponentLink1Description: Manufacturer URL; ComponentLink1URL: http://www.analog.com/en/index.html; ComponentLink2Description: Datasheet; ComponentLink2URL: http://www.analog.com/static/imported-files/data_sheets/AD5530_5531.pdf; ComponentLink3Description: Package Specification; ComponentLink3URL: http://www.analog.com/static/imported-files/packages/36244347913743854010197452789RU16.pdf; ComponentLink4Description: Product URL; ComponentLink4URL: http://www.analog.com/en/digital-to-analog-converters/da-converters/ad5531/products/product.html
footprint RU-16_N (TSOP, 16-Leads, Body 5x4.4mm, Pitch 0.65mm, IPC Medium Density)
footprint RU-16_L (TSOP, 16-Leads, Body 5x4.4mm, Pitch 0.65mm, IPC High Density)
footprint RU-16_M (TSOP, 16-Leads, Body 5x4.4mm, Pitch 0.65mm, IPC Low Density)
pins: 1 REFAGND (power) "For bipolar +/-10 V output range, this pin should be tied to 0 V.", 2 REFIN (in) "This is the voltage reference input for the DAC. Connect to external 5 V reference for specified bipolar +/-10 V output.", 3 ~{LDAC} (in) "Load DAC Logic Input (Active Low). When taken low, the contents of the shift register are transferred to the DAC register. L\D\A\C\ can be tied permanently low, enabling the outputs to be updated on the rising edge of (See Datasheet)", 4 SDIN (in) "Serial Data Input. This device accepts 16-bit words. Data is clocked into the input register on the falling edge of SCLK.", 5 ~{SYNC} (in) "Active Low Control Input. Data is clocked into the shift register on the falling edges of SCLK.", 6 ~{RBEN} (in) "Active Low Readback Enable Function. This function allows the contents of the DAC register to be read. Data from the DAC register is shifted out on the SDO pin on each rising edge of SCLK.", 7 SCLK (in) "Clock Input. Data is clocked into the input register on the falling edge of SCLK.", 8 SDO (hiz) "Serial Data Out. This pin is used to clock out the serial data previously written to the input shift register or can be used in conjunction with R\B\E\N\ to read back the data from the DAC register. This is an open drain (See Datasheet)", 9 ~{CLR} (in) "Level Sensitive, Active Low Input. A falling edge of C\L\R\ resets VOUT to DUTGND. The contents of the registers are untouched.", 10 ~{PD} (in) "This allows the DAC to be put into a power-down state.", 11 GND (power) "Ground Reference.", 12 NC "Do not connect anything to this pin.", 13 VSS (power) "Negative Analog Supply Voltage. -12 V +/-10% or -15 V +/-10%, for specified performance.", 14 DUTGND (power) "VOUT is referenced to the voltage applied to this pin.", 15 VOUT (out) "DAC Output.", 16 VDD (power) "Positive Analog Supply Voltage. 12 V +/-10% or 15 V +/-10%, for specified performance."

## AD5532ABC-1
designator U?
32 Channel 14-Bit Digital-to-Analog Converter, -40 to +85 degC, BC-74, Tray; Generic Part Number: AD5532; Manufacturer: Analog Devices; PartNumber: AD5532ABC-1; # DAC Outputs: 32; Max V+: 16.5V; Op Pwr Diss: 623mW; Resolution (Bits): 14; Settling Time: 22µs; Single Supply: No; DatasheetVersion: Rev.D; PackageVersion: 061306-A; PackageReference: BC-74; PackageDescription: 74-Ball Chip Scale Package Ball Grid Array [CSP_BGA]; Supplier 1: Digi-Key; Supplier Part Number 1: AD5532ABC-1-ND; Supplier 2: Mouser; Supplier Part Number 2: 584-AD5532ABC-1; Packing: Tray; RoHS: N; Mounting Technology: Surface Mount; Code_JEDEC: MO-192-ABD-1; ComponentLink1Description: Manufacturer URL; ComponentLink1URL: http://www.analog.com/en/index.html; ComponentLink2Description: Datasheet; ComponentLink2URL: http://www.analog.com/static/imported-files/data_sheets/AD5532.pdf; ComponentLink3Description: Package Specification; ComponentLink3URL: http://www.analog.com/static/imported-files/packages/466795438540441203902150BC_74.pdf; ComponentLink4Description: Product URL; ComponentLink4URL: http://www.analog.com/en/digital-to-analog-converters/da-converters/ad5532/products/product.html
footprint BC-74 (BGA, 74-Leads, Body 12x12mm, Pitch 1mm)
part A pins: A1 NC "Not connected", A2 A4 "Parallel Interface: 5 address pins for 32 channels. A4 = MSB of channel address. A0 = LSB. Internal pull-up devices on these logic inputs. Therefore, they can be left floating and default to a logic high condition.", A3 A2 "Parallel Interface: 5 address pins for 32 channels. A4 = MSB of channel address. A0 = LSB. Internal pull-up devices on these logic inputs. Therefore, they can be left floating and default to a logic high condition.", A4 A0 "Parallel Interface: 5 address pins for 32 channels. A4 = MSB of channel address. A0 = LSB. Internal pull-up devices on these logic inputs. Therefore, they can be left floating and default to a logic high condition.", A5 ~{CS}/~{SYNC} (in) "This is the active low Chip Select pin for the parallel interface and the Frame Synchronization pin for the serial interface.", A7 SCLK (in) "Serial Clock Input for Serial Interface. This operates at clock speeds up to 14 MHz (20 MHz in ISHA mode).", A8 OFFSET_SEL (in) "Parallel interface: Offset Select pin; active high. This is used to select the offset channel. Internal pull-down devices on these logic inputs. Therefore, they can be left floating and default to a logic low condition", A9 ~{BUSY} (out) "This output tells the user when the input voltage is being acquired. It goes low during acquisition and returns high when the acquisition operation is complete.", A10 ~{TRACK}/~{RESET} (in) "If this input is held high, VIN is acquired once the channel is addressed. While it is held low, the input to the gain/offset stage is switched directly to VIN. The addressed channel begins to acquire VIN on the rising edge (See Datasheet)", A11 NC "Not connected", B2 NC "Not connected", B3 A3 "Parallel Interface: 5 address pins for 32 channels. A4 = MSB of channel address. A0 = LSB. Internal pull-up devices on these logic inputs. Therefore, they can be left floating and default to a logic high condition.", B4 A1 "Parallel Interface: 5 address pins for 32 channels. A4 = MSB of channel address. A0 = LSB. Internal pull-up devices on these logic inputs. Therefore, they can be left floating and default to a logic high condition.", B5 ~{WR} (in) "Parallel interface: Write pin; active low. This is used in conjunction with the C\S\ pin to address the device using the parallel interface. Internal pull-down devices on these logic inputs. Therefore, they can be left (See Datasheet)", B7 DIN (in) "Data Input for Serial Interface. Data must be valid on the falling edge of SCLK. Internal pull-up devices on these logic inputs. Therefore, they can be left floating and default to a logic high condition.", B8 CAL (in) "Parallel Interface: Control input that allows all 32 channels to acquire VIN simultaneously. Internal pull-down devices on these logic inputs. Therefore, they can be left floating and default to a logic low condition", B9 SER/~{PAR} (in) "This pin allows the user to select whether the serial or parallel interface is used. If the pin is tied low, the parallel interface is used. If it is tied high, the serial interface is used. Internal pull-down devices on (See Datasheet)", B10 DOUT (out) "Output from the DAC registers for read back. Data is clocked out on the rising edge of SCLK and is valid on the falling edge of SCLK.", B11 REF_IN (in) "Reference voltage for Channels 0-31.", C6 NC "Not connected", C11 REF_OUT (out) "Reference Output Voltage.", D11 OFFS_OUT (out) "Offset Output. This is the acquired/programmed offset voltage which can be tied to OFFS_IN to offset the span.", E11 OFFS_IN (in) "Offset Input. The user can supply a voltage here to offset the output span. OFFS_OUT can also be tied to this pin if the user wants to drive this pin with the offset channel.", L1 NC "Not connected", L11 NC "Not connected"
part B pins: E2 VOUT14 (out) "Analog Output Voltages from the 32 channels.", F11 VOUT6 (out) "Analog Output Voltages from the 32 channels.", G2 VOUT8 (out) "Analog Output Voltages from the 32 channels.", G10 VOUT5 (out) "Analog Output Voltages from the 32 channels.", G11 VOUT3 (out) "Analog Output Voltages from the 32 channels.", H10 VOUT4 (out) "Analog Output Voltages from the 32 channels.", H11 VOUT7 (out) "Analog Output Voltages from the 32 channels.", J10 VOUT9 (out) "Analog Output Voltages from the 32 channels.", J11 VOUT11 (out) "Analog Output Voltages from the 32 channels.", K2 VOUT15 (out) "Analog Output Voltages from the 32 channels.", K8 VOUT2 (out) "Analog Output Voltages from the 32 channels.", K9 VOUT10 (out) "Analog Output Voltages from the 32 channels.", K10 VOUT13 (out) "Analog Output Voltages from the 32 channels.", K11 VOUT12 (out) "Analog Output Voltages from the 32 channels.", L9 VOUT0 (out) "Analog Output Voltages from the 32 channels.", L10 VOUT1 (out) "Analog Output Voltages from the 32 channels."
part C pins: B1 VOUT16 (out) "Analog Output Voltages from the 32 channels.", C1 VOUT18 (out) "Analog Output Voltages from the 32 channels.", D1 VOUT20 (out) "Analog Output Voltages from the 32 channels.", E1 VOUT26 (out) "Analog Output Voltages from the 32 channels.", F1 VOUT25 (out) "Analog Output Voltages from the 32 channels.", F2 VOUT21 (out) "Analog Output Voltages from the 32 channels.", G1 VOUT24 (out) "Analog Output Voltages from the 32 channels.", H1 VOUT23 (out) "Analog Output Voltages from the 32 channels.", J1 VOUT22 (out) "Analog Output Voltages from the 32 channels.", J2 VOUT19 (out) "Analog Output Voltages from the 32 channels.", K1 VOUT17 (out) "Analog Output Voltages from the 32 channels.", K3 VOUT27 (out) "Analog Output Voltages from the 32 channels.", L2 VOUT28 (out) "Analog Output Voltages from the 32 channels.", L3 VOUT29 (out) "Analog Output Voltages from the 32 channels.", L4 VOUT30 (out) "Analog Output Voltages from the 32 channels.", L8 VOUT31 (out) "Analog Output Voltages from the 32 channels."
part D pins: A6 DVCC (power) "Digital Supply pin. Voltage range from 2.7 V to 5.25 V.", B6 DGND (power) "Digital GND pin.", C2 DAC_GND1 (power) "Reference GND supply for all DACs.", C10 AVCC1 (power) "Analog Supply pin. Voltage range from 4.75 V to 5.25 V.", D2 DAC_GND2 (power) "Reference GND supply for all DACs.", D10 AVCC2 (power) "Analog Supply pin. Voltage range from 4.75 V to 5.25 V.", E10 AGND1 (power) "Analog GND pin.", F10 AGND2 (power) "Analog GND pin.", H2 VIN (power) "Analog Input Voltage. Connect this to AGND if operating in DAC mode only.", J6 VSS2 (power) "VSS Supply pins. Voltage range from -4.75 V to -16.5 V.", K4 VSS3 (power) "VSS Supply pin. Voltage range from -4.75 V to -16.5 V.", K5 VSS1 (power) "VSS Supply pin. Voltage range from -4.75 V to -16.5 V.", K6 VSS4 (power) "VSS Supply pin. Voltage range from -4.75 V to -16.5 V.", K7 VDD2 (power) "VDD Supply pin. Voltage range from 8 V to 16.5 V.", L5 VDD3 (power) "VDD Supply pin. Voltage range from 8 V to 16.5 V.", L6 VDD1 (power) "VDD Supply pin. Voltage range from 8 V to 16.5 V.", L7 VDD4 (power) "VDD Supply pin. Voltage range from 8 V to 16.5 V."